# EAGLE library part ADG902BRMZ (library PassiveLiFiTag)
IC RF SWITCH SPST 2.5GHZ 8MSOP
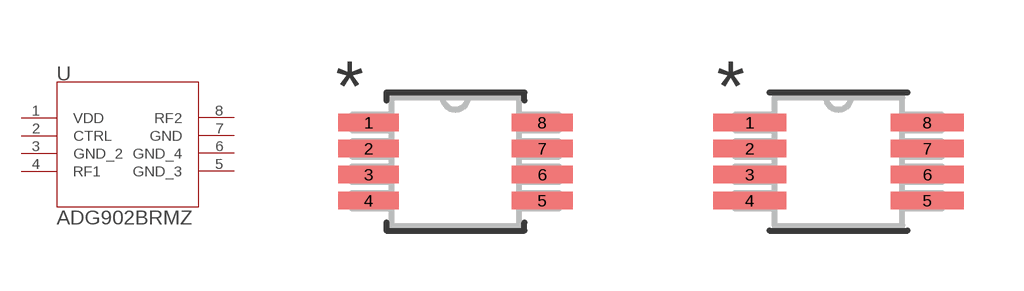
[diagram p2: symbol with the pads of RM_8_ADI; footprints RM_8_ADI, RM_8_ADI-M]

Designator prefix U

## ADG902BRMZ (COPYRIGHT: Copyright (C) 2023 Ultra Librarian. All rights reserved.; DIGIKEY_PART_NUMBER_1: ADG902BRMZ-ND; DIGIKEY_PART_NUMBER_2: 2156-ADG902BRMZ-ND; MANUFACTURER_PART_NUMBER: ADG902BRMZ; MFR_NAME: Analog Devices Inc)  [RM_8_ADI]
1  VDD  pwr
2  CTRL  pas
3  GND_2  pas
4  RF1  pas
5  GND_3  pas
6  GND_4  pas
7  GND  pas
8  RF2  pas

## ADG902BRMZRM_8_ADI-M (COPYRIGHT: Copyright (C) 2023 Ultra Librarian. All rights reserved.; DIGIKEY_PART_NUMBER_1: ADG902BRMZ-ND; DIGIKEY_PART_NUMBER_2: 2156-ADG902BRMZ-ND; MANUFACTURER_PART_NUMBER: ADG902BRMZ; MFR_NAME: Analog Devices Inc)  [RM_8_ADI-M]
Pads as for RM_8_ADI

## ADG902BRMZRM_8_ADI-L (COPYRIGHT: Copyright (C) 2023 Ultra Librarian. All rights reserved.; DIGIKEY_PART_NUMBER_1: ADG902BRMZ-ND; DIGIKEY_PART_NUMBER_2: 2156-ADG902BRMZ-ND; MANUFACTURER_PART_NUMBER: ADG902BRMZ; MFR_NAME: Analog Devices Inc)  [RM_8_ADI-L]
Pads as for RM_8_ADI

## Footprint RM_8_ADI (pad centres in mm)
smd 1.524 x 0.432: 1 -2.172,0.975; 2 -2.172,0.325; 3 -2.172,-0.325; 4 -2.172,-0.975; 5 2.172,-0.975; 6 2.172,-0.325; 7 2.172,0.325; 8 2.172,0.975

## Footprint RM_8_ADI-M (pad centres in mm)
smd 1.829 x 0.432: 1 -2.223,0.975; 2 -2.223,0.325; 3 -2.223,-0.325; 4 -2.223,-0.975; 5 2.223,-0.975; 6 2.223,-0.325; 7 2.223,0.325; 8 2.223,0.975

## Footprint RM_8_ADI-L (pad centres in mm)
smd 1.219 x 0.381: 1 -2.121,0.975; 2 -2.121,0.325; 3 -2.121,-0.325; 4 -2.121,-0.975; 5 2.121,-0.975; 6 2.121,-0.325; 7 2.121,0.325; 8 2.121,0.975